# EAGLE library part 43160-*04 (library con-molex)
SDA-43160 Connector Source: http://www.molex.com/pdm_docs/sd/431601306_sd.pdf
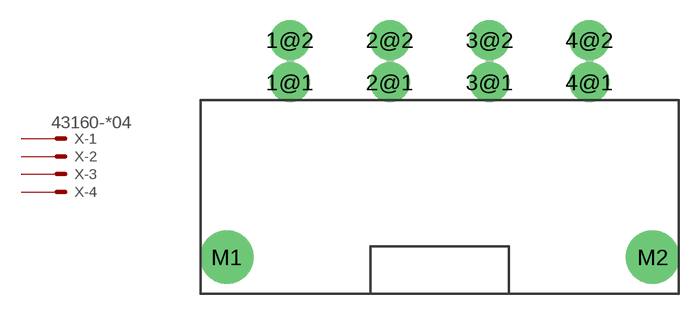
[diagram p211: symbol with the pads of 43160-XX04; footprint 43160-XX04]

Designator prefix X; gates -1=MV2 -2=M2 -3=M2 -4=M2

## 43160-1104, 43160-1204, 43160-1304, 43160-1404, 43160-3104, 43160-3204, 43160-5104, 43160-5204, 43160-5304, 43160-5404, 43160-7304, 43160-7404  [43160-XX04]
1@1  -1:S  pas
1@2  -1:S  pas
2@1  -2:S  pas
2@2  -2:S  pas
3@1  -3:S  pas
3@2  -3:S  pas
4@1  -4:S  pas
4@2  -4:S  pas

## Footprint 43160-XX04 (pad centres in mm)
SDA-43160 Connector Source: http://www.molex.com/pdm_docs/sd/431601306_sd.pdf
drill 1.8 pad 3 round: 1@1 -11.235,0; 1@2 -11.235,3.18; 2@1 -3.745,0; 2@2 -3.745,3.18; 3@1 3.745,0; 3@2 3.745,3.18; 4@1 11.235,0; 4@2 11.235,3.18
drill 3 pad 3.4 round: M1 -15.985,-13.13; M2 15.985,-13.13